# EAGLE library part ETHERNET_TRANSFORMER (library my-valor-FL1066)
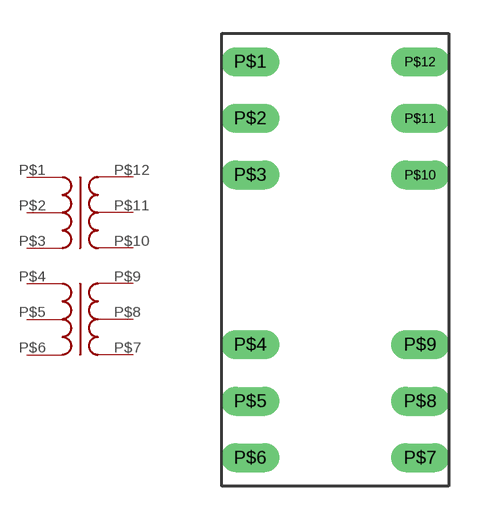
[diagram p0: symbol with the pads of DIL-16-TRANSFORMER; footprint DIL-16-TRANSFORMER]

Designator prefix -

## ETHERNET_TRANSFORMER  [DIL-16-TRANSFORMER]
P$1  P1
P$2  P2
P$3  P3
P$4  P6
P$5  P7
P$6  P8
P$7  P9
P$8  P10
P$9  P11
P$10  P14
P$11  P15
P$12  P16

## Footprint DIL-16-TRANSFORMER (pad centres in mm)
drill 0.8 long: P$1 -3.81,8.89; P$2 -3.81,6.35; P$3 -3.81,3.81; P$4 -3.81,-3.81; P$5 -3.81,-6.35; P$6 -3.81,-8.89; P$7 3.81,-8.89; P$8 3.81,-6.35; P$9 3.81,-3.81; P$10 3.81,3.81; P$11 3.81,6.35; P$12 3.81,8.89